# EAGLE library part STC15W408AS (library tmxk)
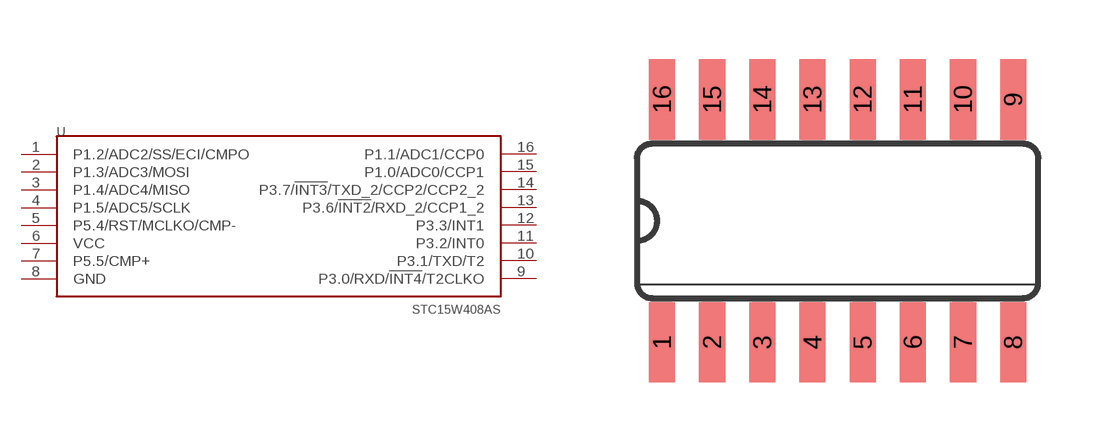
[diagram p3: symbol with the pads of SOP16; footprint SOP16]

Designator prefix U

## STC15W408AS  [SOP16]
1  P1.2/ADC2/SS/ECI/CMPO
2  P1.3/ADC3/MOSI
3  P1.4/ADC4/MISO
4  P1.5/ADC5/SCLK
5  P5.4/RST/MCLKO/CMP-
6  VCC
7  P5.5/CMP+
8  GND
9  P3.0/RXD/!INT4!/T2CLKO
10  P3.1/TXD/T2
11  P3.2/INT0
12  P3.3/INT1
13  P3.6/!INT2!/RXD_2/CCP1_2
14  P3.7/!INT3!/TXD_2/CCP2/CCP2_2
15  P1.0/ADC0/CCP1
16  P1.1/ADC1/CCP0

## Footprint SOP16 (pad centres in mm)
Small Outline Package 16
smd 0.66 x 2.032: 1 -4.445,-3.073; 2 -3.175,-3.073; 3 -1.905,-3.073; 4 -0.635,-3.073; 5 0.635,-3.073; 6 1.905,-3.073; 7 3.175,-3.073; 8 4.445,-3.073; 9 4.445,3.073; 10 3.175,3.073; 11 1.905,3.073; 12 0.635,3.073; 13 -0.635,3.073; 14 -1.905,3.073; 15 -3.175,3.073; 16 -4.445,3.073